# EAGLE library part L6924D013TR (library L6924D013TR)
Battery charger system with integrated power switch for Li-Ion/Li-Polymer Source: Datasheet <https://www.st.com/resource/en/datasheet/l6924d.pdf>
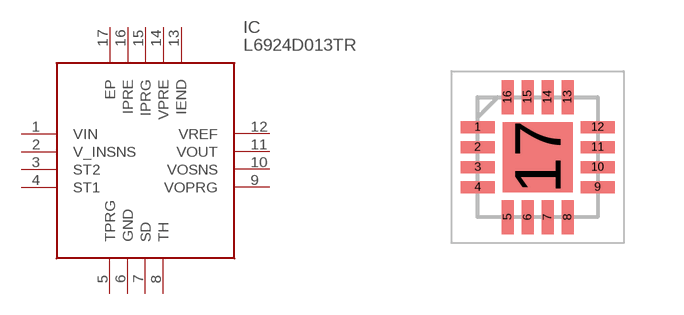
[diagram p0: symbol with the pads of QFN50P300X300X100-17N; footprint QFN50P300X300X100-17N]

Designator prefix IC

## L6924D013TR (Arrow_Part_Number: L6924D013TR; Arrow_Price-Stock: https://www.arrow.com/en/products/l6924d013tr/stmicroelectronics?region=nac; Description: Battery charger system with integrated power switch for Li-Ion/Li-Polymer; Height: 1mm; Manufacturer_Name: STMicroelectronics; Manufacturer_Part_Number: L6924D013TR; Mouser_Part_Number: 511-L6924D013TR; Mouser_Price-Stock: https://www.mouser.co.uk/ProductDetail/STMicroelectronics/L6924D013TR?qs=sZ9INdjBHvd2z7dh9ZwpeQ%3D%3D)  [QFN50P300X300X100-17N]
1  VIN
2  V_INSNS
3  ST2
4  ST1
5  TPRG
6  GND
7  SD
8  TH
9  VOPRG
10  VOSNS
11  VOUT
12  VREF
13  IEND
14  VPRE
15  IPRG
16  IPRE
17  EP

## Footprint QFN50P300X300X100-17N (pad centres in mm)
L6924D013TR
smd 0.85 x 0.3: 1 -1.5,0.75; 2 -1.5,0.25; 3 -1.5,-0.25; 4 -1.5,-0.75; 9 1.5,-0.75; 10 1.5,-0.25; 11 1.5,0.25; 12 1.5,0.75
smd 0.3 x 0.85: 5 -0.75,-1.5; 6 -0.25,-1.5; 7 0.25,-1.5; 8 0.75,-1.5; 13 0.75,1.5; 14 0.25,1.5; 15 -0.25,1.5; 16 -0.75,1.5
smd 1.75 x 1.75: 17 0,0